# EAGLE library part ISO124P (library burr-brown)
Precision Lowest Cost Isolation Amplifier
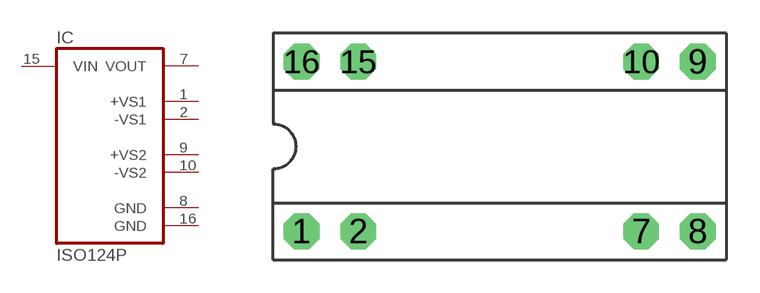
[diagram p15: symbol with the pads of DIP-16/8; footprint DIP-16/8]

Designator prefix IC

## ISO124P  [DIP-16/8]
1  +VS1  pwr
2  -VS1  pwr
7  VOUT  out
8  GND  pwr
9  +VS2  pwr
10  -VS2  pwr
15  VIN  in
16  GND  pwr

## Footprint DIP-16/8 (pad centres in mm)
drill 0.813 pad 1.6 octagon: 1 -8.89,-3.81; 2 -6.35,-3.81; 7 6.35,-3.81; 8 8.89,-3.81; 9 8.89,3.81; 10 6.35,3.81; 15 -6.35,3.81; 16 -8.89,3.81